# EAGLE library part CONNEC_1X08 (library RobotCampus)
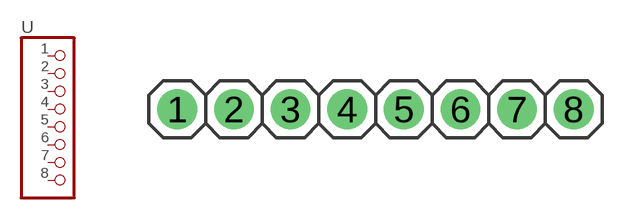
[diagram p2: symbol with the pads of CONNEC_1X08; footprint CONNEC_1X08]

Designator prefix -

## CONNEC_1X08  [CONNEC_1X08]
1  1  pas
2  2  pas
3  3  pas
4  4  pas
5  5  pas
6  6  pas
7  7  pas
8  8  pas

## Footprint CONNEC_1X08 (pad centres in mm)
drill 1 pad 1.778: 1 -10.16,0; 2 -7.62,0; 3 -5.08,0; 4 -2.54,0; 5 0,0; 6 2.54,0; 7 5.08,0; 8 7.62,0